# Altium footprint library DIP1550W56P254L5219H483Q40N.PcbLib: 1 footprints
Each footprint in its own frame and in the unit in brackets; x right, y up, seen from the top. Pads: shape width x height; smd on the part's side, far side on the other; paste and mask are expansions set on the pad; w line width, h text height; cw(c..) or ccw(c..) is an arc to the next point about the centre after c.
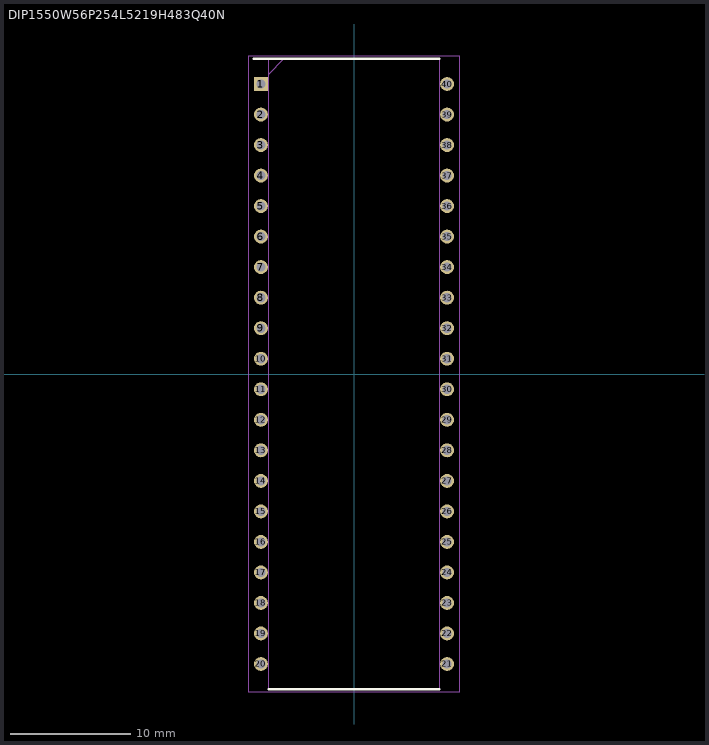
[diagram p0: the footprint, top view; thin cyan lines are the x and y axes]

## DIP1550W56P254L5219H483Q40N [mm]
pads (40):
  rect 1.16x1.16 / inner round 1.16 / far side rect 1.16x1.16 hole 0.76: 1(-7.748,24.13)
  round 1.16 hole 0.76: 2(-7.748,21.59) 3(-7.748,19.05) 4(-7.748,16.51) 5(-7.748,13.97) 6(-7.748,11.43) 7(-7.748,8.89) 8(-7.748,6.35) 9(-7.748,3.81) 10(-7.748,1.27) 11(-7.748,-1.27) 12(-7.748,-3.81) 13(-7.748,-6.35) 14(-7.748,-8.89) 15(-7.748,-11.43) 16(-7.748,-13.97) 17(-7.748,-16.51) 18(-7.748,-19.05) 19(-7.748,-21.59) 20(-7.748,-24.13) 21(7.748,-24.13) 22(7.748,-21.59) 23(7.748,-19.05) 24(7.748,-16.51) 25(7.748,-13.97) 26(7.748,-11.43) 27(7.748,-8.89) 28(7.748,-6.35) 29(7.748,-3.81) 30(7.748,-1.27) 31(7.748,1.27) 32(7.748,3.81) 33(7.748,6.35) 34(7.748,8.89) 35(7.748,11.43) 36(7.748,13.97) 37(7.748,16.51) 38(7.748,19.05) 39(7.748,21.59) 40(7.748,24.13)
Top Overlay:
  lines w0.2: -8.328,26.225 7.11,26.225 ; -7.11,-26.225 7.11,-26.225
Mechanical 15:
  lines w0.1: -7.11,24.955 -5.84,26.225 ; -7.11,-26.225 7.11,-26.225 7.11,26.225 -7.11,26.225 -7.11,-26.225
Mechanical 20:
  lines w0.05: -8.77,-26.475 8.77,-26.475 8.77,26.475 -8.77,26.475 -8.77,-26.475